# Altium footprint library 691412120002B.PcbLib: 1 footprints
Each footprint in its own frame and in the unit in brackets; x right, y up, seen from the top. Pads: shape width x height; smd on the part's side, far side on the other; paste and mask are expansions set on the pad; w line width, h text height; cw(c..) or ccw(c..) is an arc to the next point about the centre after c.
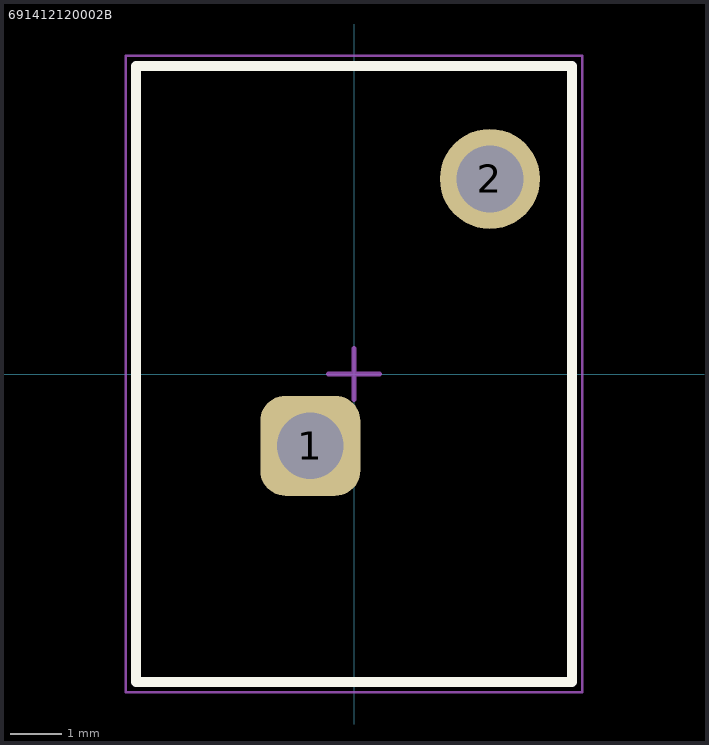
[diagram p0: the footprint, top view; thin cyan lines are the x and y axes]

## 691412120002B [mm] "3,5mm - Spring clamp/Screw less - 45¡ã entry - 02p"
height 12.8
pads (2):
  rrect50% 1.95x1.95 hole 1.3: 1(-0.85,-1.4)
  round 1.95 hole 1.3: 2(2.65,3.8)
Top Overlay:
  lines w0.2: -4.25,-6 4.25,-6 4.25,6 -4.25,6 -4.25,-6
Top Assembly:
  lines w0.1: -4.25,-6 4.25,-6 ; -4.25,-6 -4.25,6 ; -4.25,-6 -4.25,6 ; -4.25,-6 4.25,-6 ; -4.25,6 4.25,6 ; -4.25,6 4.25,6 ; 4.25,-6 4.25,6 ; 4.25,-6 4.25,6
Top Courtyard:
  lines w0.05: -4.45,-6.2 4.45,-6.2 4.45,6.2 -4.45,6.2 -4.45,-6.2
Top Designator:
  text ".Designator" at -3.647,-0.357 h1
Top Component Center:
  lines w0.1: -0.5,0 0.5,0 ; 0,-0.5 0,0.5
3D body "691412120002B.stp": height 12.85, standoff -3.45, extent -4.25,-6 4.25,6